# Altium footprint library cell_adapter.PcbLib: 6 footprints
Each footprint in its own frame and in the unit in brackets; x right, y up, seen from the top. Pads: shape width x height; smd on the part's side, far side on the other; paste and mask are expansions set on the pad; w line width, h text height; cw(c..) or ccw(c..) is an arc to the next point about the centre after c.
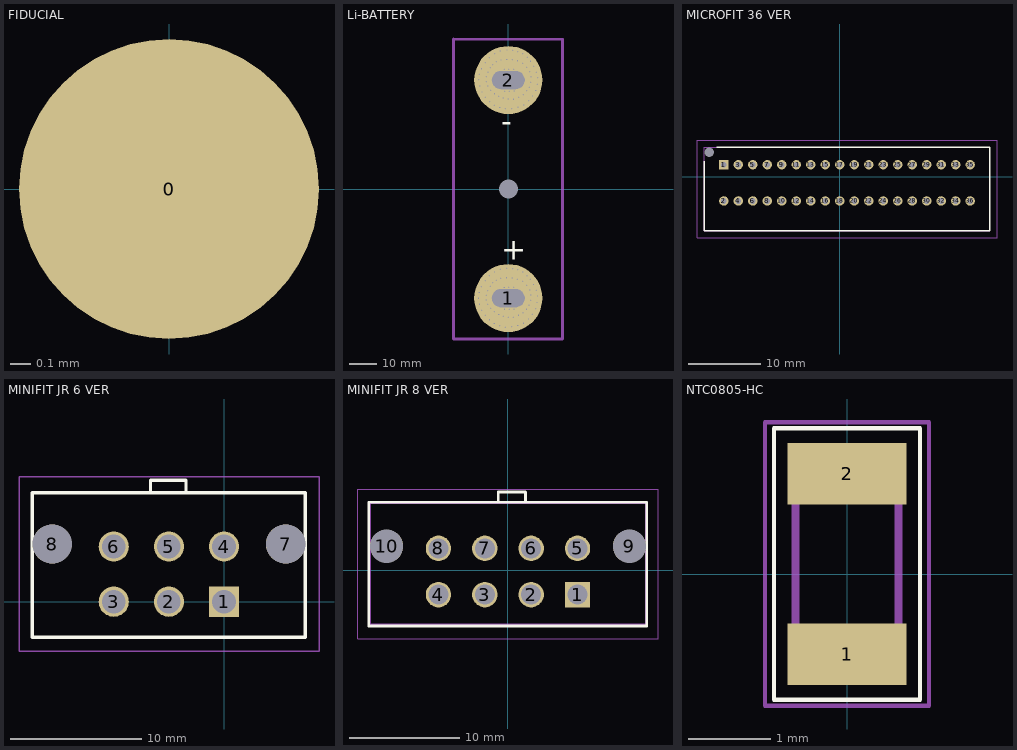
[diagram p0: the footprints below, top view; thin cyan lines are the x and y axes]

## FIDUCIAL [mm]
pads (1):
  round 1.5 smd mask+0.75: 0(0,0)

## Li-BATTERY [mm]
pads (3):
  round 0 hole 7: 0(0,0)
  round 25 hole 6.6 slot 12 at 0 deg: 1(0,-40) 2(0,40)
via 7.874,-37.033 diameter 1 hole 0.5
via 6.731,-35.281 diameter 1 hole 0.5
via 5.258,-33.858 diameter 1 hole 0.5
via 3.327,-33.02 diameter 1 hole 0.5
via 8.255,-38.862 diameter 1 hole 0.5
via 8.179,-40.818 diameter 1 hole 0.5
via 7.569,-42.621 diameter 1 hole 0.5
via 5.385,-45.415 diameter 1 hole 0.5
via 3.759,-46.279 diameter 1 hole 0.5
via 1.88,-47.015 diameter 1 hole 0.5
via -0.025,-46.99 diameter 1 hole 0.5
via -3.505,-45.999 diameter 1 hole 0.5
via -5.105,-45.009 diameter 1 hole 0.5
via -6.502,-43.764 diameter 1 hole 0.5
via -8.077,-40.665 diameter 1 hole 0.5
via -8.103,-38.887 diameter 1 hole 0.5
via -7.493,-37.236 diameter 1 hole 0.5
via -6.68,-35.585 diameter 1 hole 0.5
via -4.445,-33.376 diameter 1 hole 0.5
via -2.743,-32.664 diameter 1 hole 0.5
via 1.397,-32.614 diameter 1 hole 0.5
via -0.66,-32.512 diameter 1 hole 0.5
via 1.626,-29.159 diameter 1 hole 0.5
via 3.429,-29.642 diameter 1 hole 0.5
via 5.258,-30.429 diameter 1 hole 0.5
via 6.883,-31.725 diameter 1 hole 0.5
via 8.077,-33.096 diameter 1 hole 0.5
via 9.246,-35.001 diameter 1 hole 0.5
via 10.211,-37.135 diameter 1 hole 0.5
via 10.693,-39.218 diameter 1 hole 0.5
via 10.541,-41.605 diameter 1 hole 0.5
via 10.008,-43.891 diameter 1 hole 0.5
via -10.693,-37.948 diameter 1 hole 0.5
via -10.947,-39.98 diameter 1 hole 0.5
via -10.566,-42.24 diameter 1 hole 0.5
via -9.703,-44.399 diameter 1 hole 0.5
via -8.484,-46.33 diameter 1 hole 0.5
via -9.881,-35.839 diameter 1 hole 0.5
via -8.509,-33.63 diameter 1 hole 0.5
via -7.01,-31.801 diameter 1 hole 0.5
via -5.08,-30.429 diameter 1 hole 0.5
via -2.972,-29.362 diameter 1 hole 0.5
via -0.533,-29.032 diameter 1 hole 0.5
via 1.949,-36.035 diameter 1 hole 0.5
via 3.505,-50.038 diameter 1 hole 0.5
via -1.499,-36.068 diameter 1 hole 0.5
via -6.909,-47.981 diameter 1 hole 0.5
via 5.588,-49.2 diameter 1 hole 0.5
via 1.219,-50.546 diameter 1 hole 0.5
via -5.156,-49.276 diameter 1 hole 0.5
via -5.766,-34.366 diameter 1 hole 0.5
via -7.544,-42.24 diameter 1 hole 0.5
via -1.88,-46.634 diameter 1 hole 0.5
via 6.655,-44.018 diameter 1 hole 0.5
via -1.118,-50.622 diameter 1 hole 0.5
via -1.397,-44.094 diameter 1 hole 0.5
via 0.305,-44.094 diameter 1 hole 0.5
via 0.127,-36.043 diameter 1 hole 0.5
via 2.108,-44.069 diameter 1 hole 0.5
via -3.15,-50.114 diameter 1 hole 0.5
via 8.839,-45.898 diameter 1 hole 0.5
via 7.417,-47.65 diameter 1 hole 0.5
via 7.925,43.002 diameter 1 hole 0.5
via 6.782,44.755 diameter 1 hole 0.5
via 5.309,46.177 diameter 1 hole 0.5
via 3.378,47.015 diameter 1 hole 0.5
via 8.306,41.173 diameter 1 hole 0.5
via 8.23,39.218 diameter 1 hole 0.5
via 7.62,37.414 diameter 1 hole 0.5
via 5.436,34.62 diameter 1 hole 0.5
via 3.81,33.757 diameter 1 hole 0.5
via 1.93,33.02 diameter 1 hole 0.5
via 0.025,33.045 diameter 1 hole 0.5
via -3.454,34.036 diameter 1 hole 0.5
via -5.055,35.027 diameter 1 hole 0.5
via -6.452,36.271 diameter 1 hole 0.5
via -8.026,39.37 diameter 1 hole 0.5
via -8.052,41.148 diameter 1 hole 0.5
via -7.442,42.799 diameter 1 hole 0.5
via -6.629,44.45 diameter 1 hole 0.5
via -4.394,46.66 diameter 1 hole 0.5
via -2.692,47.371 diameter 1 hole 0.5
via 1.448,47.422 diameter 1 hole 0.5
via -0.61,47.523 diameter 1 hole 0.5
via 1.676,50.876 diameter 1 hole 0.5
via 3.48,50.394 diameter 1 hole 0.5
via 5.309,49.606 diameter 1 hole 0.5
via 6.934,48.311 diameter 1 hole 0.5
via 8.128,46.939 diameter 1 hole 0.5
via 9.296,45.034 diameter 1 hole 0.5
via 10.262,42.901 diameter 1 hole 0.5
via 10.744,40.818 diameter 1 hole 0.5
via 10.592,38.43 diameter 1 hole 0.5
via 10.058,36.144 diameter 1 hole 0.5
via -10.643,42.088 diameter 1 hole 0.5
via -10.897,40.056 diameter 1 hole 0.5
via -10.516,37.795 diameter 1 hole 0.5
via -9.652,35.636 diameter 1 hole 0.5
via -8.433,33.706 diameter 1 hole 0.5
via -9.83,44.196 diameter 1 hole 0.5
via -8.458,46.406 diameter 1 hole 0.5
via -6.96,48.235 diameter 1 hole 0.5
via -5.029,49.606 diameter 1 hole 0.5
via -2.921,50.673 diameter 1 hole 0.5
via -0.483,51.003 diameter 1 hole 0.5
via 2,44 diameter 1 hole 0.5
via 3.556,29.997 diameter 1 hole 0.5
via -1.448,43.967 diameter 1 hole 0.5
via -6.858,32.055 diameter 1 hole 0.5
via 5.639,30.836 diameter 1 hole 0.5
via 1.27,29.489 diameter 1 hole 0.5
via -5.105,30.759 diameter 1 hole 0.5
via -5.715,45.669 diameter 1 hole 0.5
via -7.493,37.795 diameter 1 hole 0.5
via -1.829,33.401 diameter 1 hole 0.5
via 6.706,36.017 diameter 1 hole 0.5
via -1.067,29.413 diameter 1 hole 0.5
via -1.346,35.941 diameter 1 hole 0.5
via 0.356,35.941 diameter 1 hole 0.5
via 0.178,43.993 diameter 1 hole 0.5
via 2.159,35.966 diameter 1 hole 0.5
via -3.099,29.921 diameter 1 hole 0.5
via 8.89,34.138 diameter 1 hole 0.5
via 7.468,32.385 diameter 1 hole 0.5
Top Overlay:
  text "+" at -2.513,-25.97 h8
  text "-" at -2.539,20.996 h8
  text ".Designator" at -3.023,13.894 h1.52
Mechanical 2:
  lines w1: -20.109,-54.984 19.891,-54.984 19.891,55.016 -20.109,55.016 ; -20.109,-54.94 -20.109,55.06

## MICROFIT 36 VER [mm]
pads (37):
  rect 1.3x1.3 hole 0.8: 1(-16,1.65)
  round 1.3 hole 0.8: 2(-16,-3.35) 3(-14,1.65) 4(-14,-3.35) 5(-12,1.65) 6(-12,-3.35) 7(-10,1.65) 8(-10,-3.35) 9(-8,1.65) 10(-8,-3.35) 11(-6,1.65) 12(-6,-3.35) 13(-4,1.65) 14(-4,-3.35) 15(-2,1.65) 16(-2,-3.35) 17(0,1.65) 18(0,-3.35) 19(2,1.65) 20(2,-3.35) 21(4,1.65) 22(4,-3.35) 23(6,1.65) 24(6,-3.35) 25(8,1.65) 26(8,-3.35) 27(10,1.65) 28(10,-3.35) 29(12,1.65) 30(12,-3.35) 31(14,1.65) 32(14,-3.35) 33(16,1.65) 34(16,-3.35) 35(18,1.65) 36(18,-3.35)
  round 0.65 hole 1.3 unplated: MH1(-18,3.35)
Top Overlay:
  lines w0.2: -18.7,2.15 -18.7,-7.45 20.7,-7.45 20.7,4.05 -17,4.05
Mechanical 13:
  lines w0.1: -18.7,-7.45 -18.7,4.05 20.7,4.05 20.7,-7.45 -18.7,-7.45
Mechanical 15:
  lines w0.1: -19.7,-8.45 -19.7,5.05 21.7,5.05 21.7,-8.45 -19.7,-8.45
3D body "0559173610.stp": height 9.75, standoff -3.2, extent -18.733,-7.443 20.667,4.057

## MINIFIT JR 6 VER [mm]
pads (8):
  rect 2.3x2.3 hole 1.8: 1(0,0)
  round 2.3 hole 1.8: 2(-4.2,0) 3(-8.4,0) 4(0,4.2) 5(-4.2,4.2) 6(-8.4,4.2)
  round 3 hole 3 unplated: 7(4.7,4.391) 8(-13.1,4.391)
Top Overlay:
  lines w0.254: -5.6,8.3 -5.6,9.248 -2.9,9.248 -2.9,8.3 ; -14.6,-2.7 6.2,-2.7 6.2,8.3 -14.6,8.3 -14.6,-2.7
Mechanical 13:
  lines w0.127: -14.6,-2.7 -14.6,8.3 6.2,8.3 6.2,-2.7 -14.6,-2.7
Mechanical 15:
  lines w0.1: -15.621,-3.785 -15.621,9.525 7.239,9.525 7.239,-3.785 -15.621,-3.785
3D body "46207-0006.stp": height 13.44, standoff -3.82, extent -14.53,-2.89 6.33,8.11

## MINIFIT JR 8 VER [mm]
pads (10):
  rect 2.3x2.3 hole 1.8: 1(6.3,-2.195)
  round 2.3 hole 1.8: 2(2.1,-2.195) 3(-2.1,-2.195) 4(-6.3,-2.195) 5(6.3,2.004) 6(2.1,2.004) 7(-2.1,2.004) 8(-6.3,2.004)
  round 3 hole 3 unplated: 9(11,2.195) 10(-11,2.195)
Top Overlay:
  lines w0.254: -0.889,6.212 -0.889,7.112 1.56,7.112 ; 1.575,6.198 1.575,7.098 ; -12.623,-5.022 12.573,-5.022 12.573,6.178 -12.623,6.178 -12.623,-5.022
Mechanical 13:
  lines w0.127: -12.5,-4.895 -12.5,6.105 12.5,6.105 12.5,-4.895 -12.5,-4.895
Mechanical 15:
  lines w0.1: -13.589,-6.198 -13.589,7.366 13.589,7.366 13.589,-6.198 -13.589,-6.198
3D body "46207-0008.stp": height 13.52, standoff -3.74, extent -12.55,-5.096 12.51,5.904

## NTC0805-HC [mm]
pads (2):
  rect 1.45x0.75 smd: 1(0,-0.973) 2(0,1.227)
Top Overlay:
  lines w0.05: -0.889,-1.524 0.889,-1.524 0.889,1.778 -0.889,1.778 -0.889,-1.524
Mechanical 13:
  lines w0.1: -0.625,-0.873 0.625,-0.873 0.625,1.127 -0.625,1.127 -0.625,-0.873
Mechanical 15:
  lines w0.05: -1,-1.598 1,-1.598 1,1.852 -1,1.852 -1,-1.598
3D body "NTCS0805E3103FLT.stp": height 0.95, standoff 0, extent -0.625,-0.873 0.625,1.127